# EAGLE library part MPU9250-FEMALE (library (custom)-connectors-and-modules)
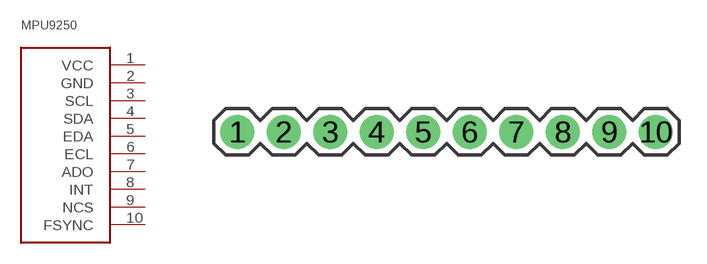
[diagram p4: symbol with the pads of 1X10; footprint 1X10]

Designator prefix MPU9250

## MPU9250-FEMALE  [1X10]
1  VCC
2  GND
3  SCL
4  SDA
5  EDA
6  ECL
7  ADO
8  INT
9  NCS
10  FSYNC

## Footprint 1X10 (pad centres in mm)
drill 1.016 pad 1.88: 1 0,0; 2 2.54,0; 3 5.08,0; 4 7.62,0; 5 10.16,0; 6 12.7,0; 7 15.24,0; 8 17.78,0; 9 20.32,0; 10 22.86,0